# EAGLE library part 472231010110 (library WS-TOTV)
WS-TOTV Ø 12 mm Panel Cut-Out Vertical Operation Toggle Switch with 6.3 mm quick-connect Terminal Material Properties Actuator Material Copper Alloy Cover Material Aluminium Alloy Frame Material PA66 Frame Flammability Rating UL94 V-0 Moveable Contact Material Silver Alloy Stationary Contact Material Silver Alloy Terminal Material Copper Alloy Terminal Plating Nickel Electrical Properties Contact Resistance Initial 20 mΩ RISO 100 MΩ Mechanical Properties Electrical Life 10000 Cycles Connection Type Opposite Side Connection General Information Operating Temperature -40 up to +85 °C <https://www.we-online.com/components/media/o856100v209%20Model-WA-Switch_model.jpg> Details see: www.we-online.com/components/products/WS-TOTV-12MM-PANEL-CUT-OUT-VERTICAL <www.we-online.com/catalog/WS-TOTV-12MM-PANEL-CUT-OUT-VERTICAL/?utm_source=eagle_model&utm_medium=description_link&utm_campaign=eisos_eagle> Created by Ella 2025-06-24 2025(C) Würth Elektronik
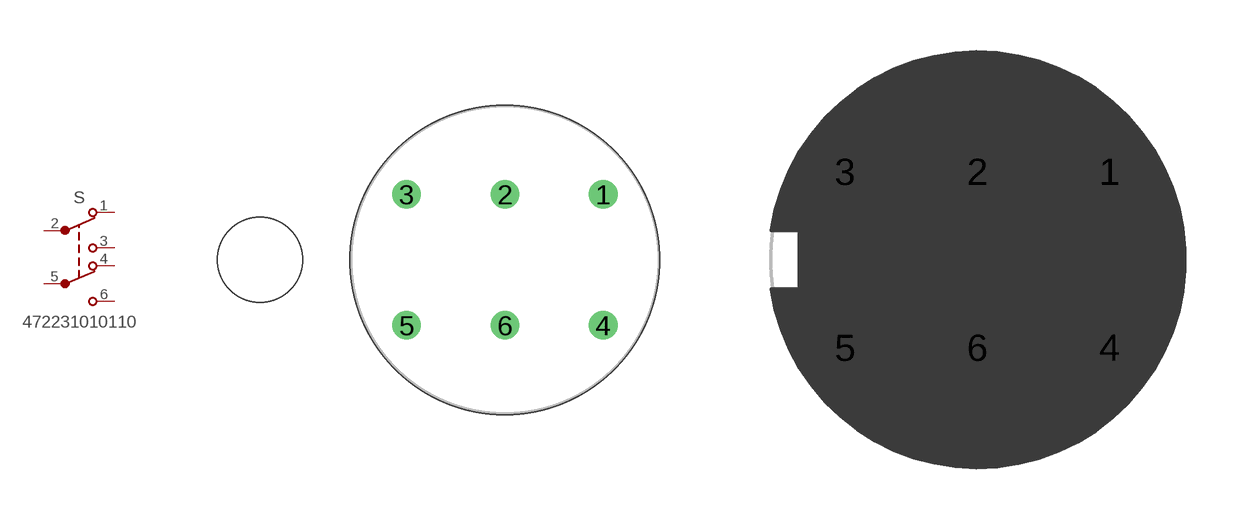
[diagram p9: symbol with the pads of 472231010110_WITHLOCKING; footprints 472231010110_WITHLOCKING, 472231010110_WOLOCKING]

Designator prefix S

## 472231010110_WITHLOCKING (DATASHEET-URL: https://www.we-online.com/redexpert/spec/472231010110?ae; PART-NUMBER: 472231010110; SCHEMATIC: DPDT; SWITCHING-FUNCTION: ON-ON; VALUE: 472231010110)  [472231010110_WITHLOCKING]
1  1  pas
2  2  pas
3  3  pas
4  4  pas
5  5  pas
6  6  pas

## 472231010110_WOLOCKING (DATASHEET-URL: https://www.we-online.com/redexpert/spec/472231010110?ae; PART-NUMBER: 472231010110; SCHEMATIC: DPDT; SWITCHING-FUNCTION: ON-ON; VALUE: 472231010110)  [472231010110_WOLOCKING]
Pads as for 472231010110_WITHLOCKING

## Footprint 472231010110_WITHLOCKING (pad centres in mm)
WS-TOTV Ø 12 mm Panel Cut-Out Vertical Operation Toggle Switch with 6.3 mm quick-connect Terminal Size: 33.7x22.6mm
drill 0.6: 1 3.81,2.54; 2 0,2.54; 3 -3.81,2.54; 4 3.81,-2.54; 5 -3.81,-2.54; 6 0,-2.54
hole 12 at 0,0
hole 3.3 at -9.5,0

## Footprint 472231010110_WOLOCKING (pad centres in mm)
WS-TOTV Ø 12 mm Panel Cut-Out Vertical Operation Toggle Switch with 6.3 mm quick-connect Terminal Size: 33.7x22.6mm
drill 0.6: 1 3.81,2.54; 2 0,2.54; 3 -3.81,2.54; 4 3.81,-2.54; 5 -3.81,-2.54; 6 0,-2.54